# EAGLE library part IC_SRAM_62256_256K_32KB (library mylib_20130829)
IC_SRAM_62256_256k_32KB : Static RAM 256Kbits (32kBytes) Packages : _FLAT : 1.27 x 28 x 600mil _DIP : 2.54 x 28 x 600mil _HENKAN : 2.54 x 28 x 750mil
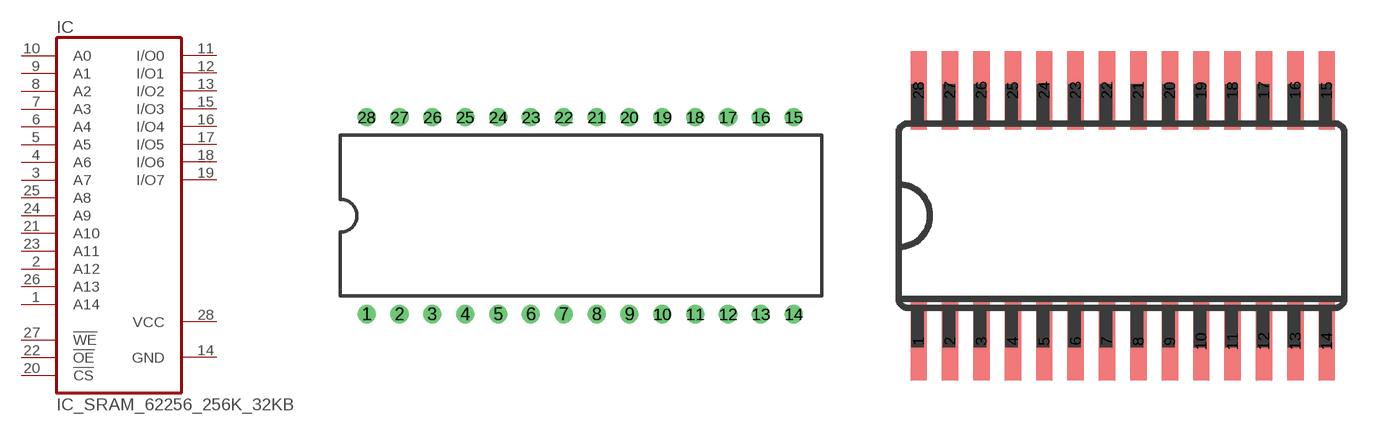
[diagram p58: symbol with the pads of IC_SOCKET_DIL_28_600MIL; footprints IC_SOCKET_DIL_28_600MIL, IC_28_1.27_300MIL]

Designator prefix IC

## IC_SRAM_62256_256K_32KB_DIP  [IC_SOCKET_DIL_28_600MIL]
1  A14  in
2  A12  in
3  A7  in
4  A6  in
5  A5  in
6  A4  in
7  A3  in
8  A2  in
9  A1  in
10  A0  in
11  I/O0
12  I/O1
13  I/O2
14  GND  pwr
15  I/O3
16  I/O4
17  I/O5
18  I/O6
19  I/O7
20  !CS  in
21  A10  in
22  !OE  in
23  A11  in
24  A9  in
25  A8  in
26  A13  in
27  !WE  in
28  VCC  pwr

## IC_SRAM_62256_256K_32KB_FLAT  [IC_28_1.27_300MIL]
Pads as for IC_SOCKET_DIL_28_600MIL

## IC_SRAM_62256_256K_32KB_HENKAN  [BOARD_HENKAN_WDIP28]
Pads as for IC_SOCKET_DIL_28_600MIL

## Footprint IC_SOCKET_DIL_28_600MIL (pad centres in mm)
Dual In Line package type P
drill 0.889: 1 -16.51,-7.62; 2 -13.97,-7.62; 3 -11.43,-7.62; 4 -8.89,-7.62; 5 -6.35,-7.62; 6 -3.81,-7.62; 7 -1.27,-7.62; 8 1.27,-7.62; 9 3.81,-7.62; 10 6.35,-7.62; 11 8.89,-7.62; 12 11.43,-7.62; 13 13.97,-7.62; 14 16.51,-7.62; 15 16.51,7.62; 16 13.97,7.62; 17 11.43,7.62; 18 8.89,7.62; 19 6.35,7.62; 20 3.81,7.62; 21 1.27,7.62; 22 -1.27,7.62; 23 -3.81,7.62; 24 -6.35,7.62; 25 -8.89,7.62; 26 -11.43,7.62; 27 -13.97,7.62; 28 -16.51,7.62

## Footprint IC_28_1.27_300MIL (pad centres in mm)
smd 0.66 x 3.175: 1 -7.569,-5.08; 2 -6.299,-5.08; 3 -5.029,-5.08; 4 -3.759,-5.08; 5 -2.489,-5.08; 6 -1.219,-5.08; 7 0.051,-5.08; 8 1.321,-5.08; 9 2.591,-5.08; 10 3.861,-5.08; 11 5.131,-5.08; 12 6.401,-5.08; 13 7.671,-5.08; 14 8.941,-5.08; 15 8.941,5.08; 16 7.671,5.08; 17 6.401,5.08; 18 5.131,5.08; 19 3.861,5.08; 20 2.591,5.08; 21 1.321,5.08; 22 0.051,5.08; 23 -1.219,5.08; 24 -2.489,5.08; 25 -3.759,5.08; 26 -5.029,5.08; 27 -6.299,5.08; 28 -7.569,5.08

## Footprint BOARD_HENKAN_WDIP28 (pad centres in mm)
drill 0.813: 1 -16.51,-7.62; 2 -13.97,-7.62; 3 -11.43,-7.62; 4 -8.89,-7.62; 5 -6.35,-7.62; 6 -3.81,-7.62; 7 -1.27,-7.62; 8 1.27,-7.62; 9 3.81,-7.62; 10 6.35,-7.62; 11 8.89,-7.62; 12 11.43,-7.62; 13 13.97,-7.62; 14 16.51,-7.62; 15 16.51,7.62; 16 13.97,7.62; 17 11.43,7.62; 18 8.89,7.62; 19 6.35,7.62; 20 3.81,7.62; 21 1.27,7.62; 22 -1.27,7.62; 23 -3.81,7.62; 24 -6.35,7.62; 25 -8.89,7.62; 26 -11.43,7.62; 27 -13.97,7.62; 28 -16.51,7.62